# Altium schematic symbol library RP73PF1J10KBTDF.SchLib: 1 symbol
Pins are listed as number, name and electrical type; pins without a type are passive.

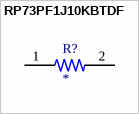
[diagram p0: symbol RP73PF1J10KBTDF]

## RP73PF1J10KBTDF
designator R?
RP 1J 0.166W 10K 0.1% 25PPM 1K RL; MF: {'manufacturer': u'TE Connectivity'}; MP: RP73PF1J10KBTDF; Package: None; Price: None; Value: *; Availability: Unavailable
footprint RESC1608X50N
pins: 1, 2